# Altium schematic symbol library HT9170.SchLib: 1 symbol
Pins are listed as number, name and electrical type; pins without a type are passive.

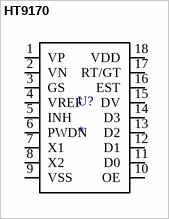
[diagram p0: symbol HT9170]

## HT9170
designator U?
HT9170; MF: Holtek; MP: HT9170B; Price: None; Value: *; Availability: Unavailable; SnapEDA_Link: https://www.snapeda.com/parts/HT9170B/Holtek/view-part/105806/?ref=snap; Package: None
footprint HT9170
pins: 1 VP (io), 2 VN (io), 3 GS (io), 4 VREF (io), 5 INH (io), 6 PWDN (io), 7 X1 (io), 8 X2 (io), 9 VSS (power), 10 OE (io), 11 D0 (io), 12 D1 (io), 13 D2 (io), 14 D3 (io), 15 DV (io), 16 EST (io), 17 RT/GT (io), 18 VDD (power)